# EAGLE library part MTRDRVR (library wobbleBot)
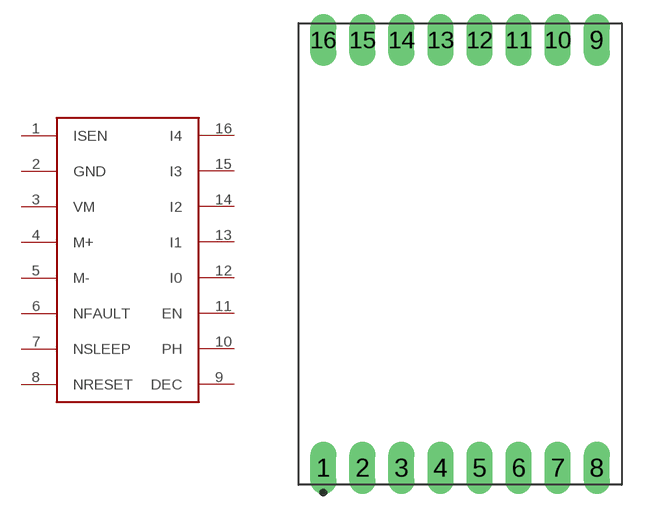
[diagram p2: symbol with the pads of HDRVR16W64P2784X254_2X8_2100X3000X254B; footprint HDRVR16W64P2784X254_2X8_2100X3000X254B]

Designator prefix -

## MTRDRVRMTRDRVR  [HDRVR16W64P2784X254_2X8_2100X3000X254B]
1  ISEN
2  GND
3  VM
4  M+
5  M-
6  NFAULT
7  NSLEEP
8  NRESET
9  DEC
10  PH
11  EN
12  I0
13  I1
14  I2
15  I3
16  I4

## Footprint HDRVR16W64P2784X254_2X8_2100X3000X254B (pad centres in mm)
Double-row, 16-pin Receptacle Header (Female) Straight, 27.84 mm (1.10 in) row pitch, 2.54 mm (0.10 in) col pitch, 2.54 mm insulator length, 21.00 X 30.00 X 2.54 mm body Double-row (2X8), 16-pin Receptacle Header (Female) Straight package with 27.84 mm (1.10 in) row pitch, 2.54 mm (0.10 in) col pitch, 0.64 mm lead width, 3.00 mm tail length and 2.54 mm insulator length with overall size 21.00 X 30.00 X 2.54 mm, pin pattern - counter-clockwise from bottom left
drill 1.105 pad 1.705 long: 1 0,0; 2 2.54,0; 3 5.08,0; 4 7.62,0; 5 10.16,0; 6 12.7,0; 7 15.24,0; 8 17.78,0; 9 17.78,27.84; 10 15.24,27.84; 11 12.7,27.84; 12 10.16,27.84; 13 7.62,27.84; 14 5.08,27.84; 15 2.54,27.84; 16 0,27.84